# Altium footprint library KBU.PcbLib: 1 footprints
Each footprint in its own frame and in the unit in brackets; x right, y up, seen from the top. Pads: shape width x height; smd on the part's side, far side on the other; paste and mask are expansions set on the pad; w line width, h text height; cw(c..) or ccw(c..) is an arc to the next point about the centre after c.
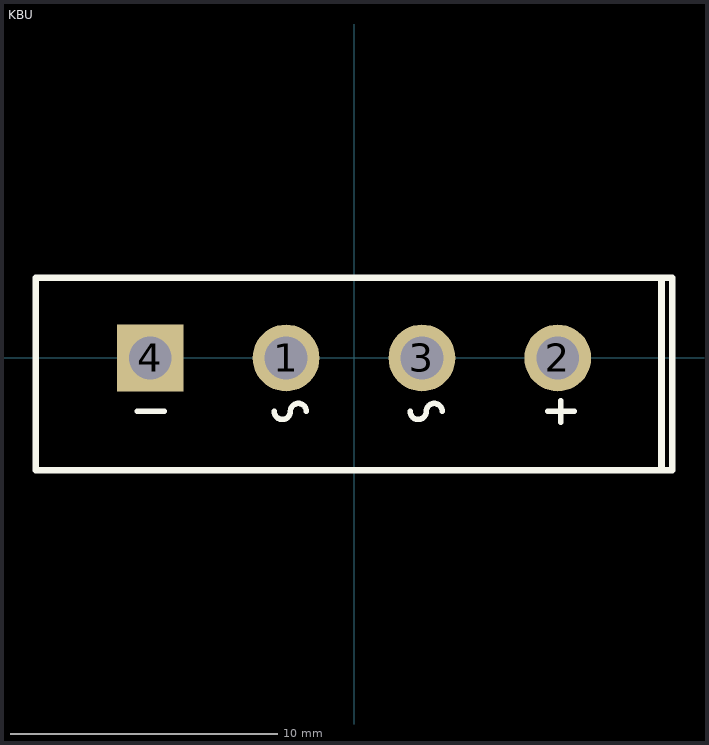
[diagram p0: the footprint, top view; thin cyan lines are the x and y axes]

## KBU [mm]
pads (4):
  round 2.5 hole 1.6: 1(-2.54,0) 2(7.62,0) 3(2.54,0)
  rect 2.5x2.5 hole 1.6: 4(-7.62,0)
Top Overlay:
  lines w0.203: -8.1,-2 -7.1,-2 ; -2.98,-2 ccw(c-2.68,-2) -2.38,-2 cw(c-2.08,-2) -1.78,-2 ; 2.1,-2 ccw(c2.4,-2) 2.7,-2 cw(c3,-2) 3.3,-2 ; 7.24,-2 8.24,-2 ; 7.74,-2.4 7.74,-1.6
  lines w0.254: 11.5,-4.2 11.5,3 ; -11.9,-4.2 11.9,-4.2 11.9,3 -11.9,3 -11.9,-4.2